# Altium footprint library Con 050 DSubminiature.PcbLib: 112 footprints (part 7 of 7)
Each footprint in its own frame and in the unit in brackets; x right, y up, seen from the top. Pads: shape width x height; smd on the part's side, far side on the other; paste and mask are expansions set on the pad; w line width, h text height; cw(c..) or ccw(c..) is an arc to the next point about the centre after c.
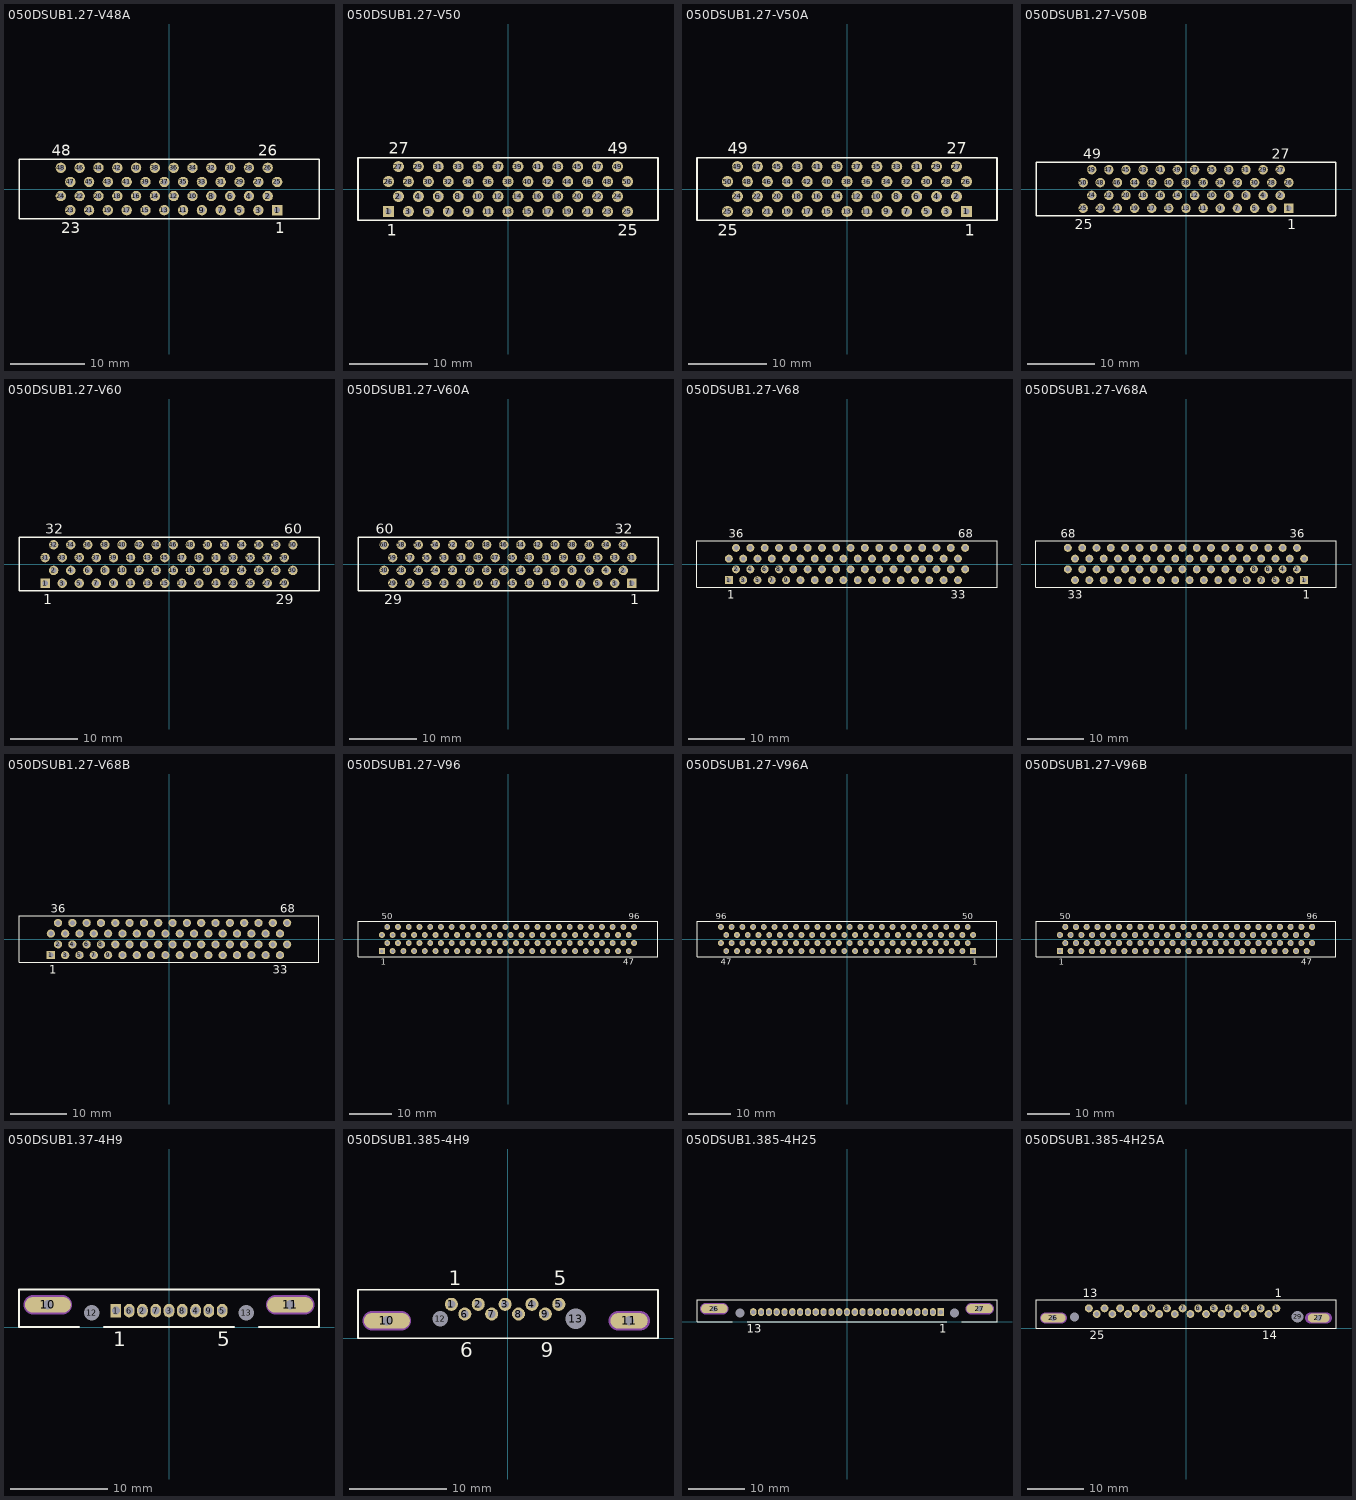
[diagram p6: the footprints below, top view; thin cyan lines are the x and y axes]

## 050DSUB1.27-V48A [mm] "Connector; D Subminiature 050 Series; 48 Position; Vertical"
height 9.5
pads (48):
  rect 1.4x1.4 hole 0.8: 1(14.605,-2.857)
  round 1.4 hole 0.8: 2(13.335,-0.953) 3(12.065,-2.857) 4(10.795,-0.953) 5(9.525,-2.857) 6(8.255,-0.953) 7(6.985,-2.857) 8(5.715,-0.953) 9(4.445,-2.857) 10(3.175,-0.953) 11(1.905,-2.857) 12(0.635,-0.953) 13(-0.635,-2.857) 14(-1.905,-0.953) 15(-3.175,-2.857) 16(-4.445,-0.953) 17(-5.715,-2.857) 18(-6.985,-0.953) 19(-8.255,-2.857) 20(-9.525,-0.953) 21(-10.795,-2.857) 22(-12.065,-0.953) 23(-13.335,-2.857) 24(-14.605,-0.953) 25(14.605,0.953) 26(13.335,2.857) 27(12.065,0.953) 28(10.795,2.857) 29(9.525,0.953) 30(8.255,2.857) 31(6.985,0.953) 32(5.715,2.857) 33(4.445,0.953) 34(3.175,2.857) 35(1.905,0.953) 36(0.635,2.857) 37(-0.635,0.953) 38(-1.905,2.857) 39(-3.175,0.953) 40(-4.445,2.857) 41(-5.715,0.953) 42(-6.985,2.857) 43(-8.255,0.953) 44(-9.525,2.857) 45(-10.795,0.953) 46(-12.065,2.857) 47(-13.335,0.953) 48(-14.605,2.857)
Top Overlay:
  lines w0.2: -20.26,-4 -20.26,4 20.26,4 20.26,-4 -20.26,-4
  text "1" at 14.355,-5.975 h1.5
  text "23" at -14.585,-5.975 h1.5
  text "48" at -15.855,4.475 h1.5
  text "26" at 12.085,4.475 h1.5

## 050DSUB1.27-V50 [mm] "Connector; D Subminiature 050 Series; 50 Position; Vertical"
height 8
pads (50):
  rect 1.4x1.4 hole 0.8: 1(-15.24,-2.857)
  round 1.4 hole 0.8: 2(-13.97,-0.953) 3(-12.7,-2.857) 4(-11.43,-0.953) 5(-10.16,-2.857) 6(-8.89,-0.953) 7(-7.62,-2.857) 8(-6.35,-0.953) 9(-5.08,-2.857) 10(-3.81,-0.953) 11(-2.54,-2.857) 12(-1.27,-0.953) 13(0,-2.857) 14(1.27,-0.953) 15(2.54,-2.857) 16(3.81,-0.953) 17(5.08,-2.857) 18(6.35,-0.953) 19(7.62,-2.857) 20(8.89,-0.953) 21(10.16,-2.857) 22(11.43,-0.953) 23(12.7,-2.857) 24(13.97,-0.953) 25(15.24,-2.857) 26(-15.24,0.953) 27(-13.97,2.857) 28(-12.7,0.953) 29(-11.43,2.857) 30(-10.16,0.953) 31(-8.89,2.857) 32(-7.62,0.953) 33(-6.35,2.857) 34(-5.08,0.953) 35(-3.81,2.857) 36(-2.54,0.953) 37(-1.27,2.857) 38(0,0.953) 39(1.27,2.857) 40(2.54,0.953) 41(3.81,2.857) 42(5.08,0.953) 43(6.35,2.857) 44(7.62,0.953) 45(8.89,2.857) 46(10.16,0.953) 47(11.43,2.857) 48(12.7,0.953) 49(13.97,2.857) 50(15.24,0.953)
Top Overlay:
  lines w0.2: -19.13,-4 19.13,-4 19.13,4 -19.13,4 -19.13,-4
  text "1" at -15.49,-5.975 h1.5
  text "25" at 13.99,-5.975 h1.5
  text "27" at -15.22,4.475 h1.5
  text "49" at 12.72,4.475 h1.5

## 050DSUB1.27-V50A [mm] "Connector; D Subminiature 050 Series; 50 Position; Vertical"
height 9.6
pads (50):
  rect 1.4x1.4 hole 0.8: 1(15.24,-2.857)
  round 1.4 hole 0.8: 2(13.97,-0.953) 3(12.7,-2.857) 4(11.43,-0.953) 5(10.16,-2.857) 6(8.89,-0.953) 7(7.62,-2.857) 8(6.35,-0.953) 9(5.08,-2.857) 10(3.81,-0.953) 11(2.54,-2.857) 12(1.27,-0.953) 13(0,-2.857) 14(-1.27,-0.953) 15(-2.54,-2.857) 16(-3.81,-0.953) 17(-5.08,-2.857) 18(-6.35,-0.953) 19(-7.62,-2.857) 20(-8.89,-0.953) 21(-10.16,-2.857) 22(-11.43,-0.953) 23(-12.7,-2.857) 24(-13.97,-0.953) 25(-15.24,-2.857) 26(15.24,0.953) 27(13.97,2.857) 28(12.7,0.953) 29(11.43,2.857) 30(10.16,0.953) 31(8.89,2.857) 32(7.62,0.953) 33(6.35,2.857) 34(5.08,0.953) 35(3.81,2.857) 36(2.54,0.953) 37(1.27,2.857) 38(0,0.953) 39(-1.27,2.857) 40(-2.54,0.953) 41(-3.81,2.857) 42(-5.08,0.953) 43(-6.35,2.857) 44(-7.62,0.953) 45(-8.89,2.857) 46(-10.16,0.953) 47(-11.43,2.857) 48(-12.7,0.953) 49(-13.97,2.857) 50(-15.24,0.953)
Top Overlay:
  lines w0.2: -19.13,-4 19.13,-4 19.13,4 -19.13,4 -19.13,-4
  text "27" at 12.72,4.475 h1.5
  text "49" at -15.22,4.475 h1.5
  text "25" at -16.49,-5.975 h1.5
  text "1" at 14.99,-5.975 h1.5

## 050DSUB1.27-V50B [mm] "Connector; D Subminiature 050 Series; 50 Position; Vertical"
height 9.5
pads (50):
  rect 1.4x1.4 hole 0.8: 1(15.24,-2.857)
  round 1.4 hole 0.8: 2(13.97,-0.953) 3(12.7,-2.857) 4(11.43,-0.953) 5(10.16,-2.857) 6(8.89,-0.953) 7(7.62,-2.857) 8(6.35,-0.953) 9(5.08,-2.857) 10(3.81,-0.953) 11(2.54,-2.857) 12(1.27,-0.953) 13(0,-2.857) 14(-1.27,-0.953) 15(-2.54,-2.857) 16(-3.81,-0.953) 17(-5.08,-2.857) 18(-6.35,-0.953) 19(-7.62,-2.857) 20(-8.89,-0.953) 21(-10.16,-2.857) 22(-11.43,-0.953) 23(-12.7,-2.857) 24(-13.97,-0.953) 25(-15.24,-2.857) 26(15.24,0.953) 27(13.97,2.857) 28(12.7,0.953) 29(11.43,2.857) 30(10.16,0.953) 31(8.89,2.857) 32(7.62,0.953) 33(6.35,2.857) 34(5.08,0.953) 35(3.81,2.857) 36(2.54,0.953) 37(1.27,2.857) 38(0,0.953) 39(-1.27,2.857) 40(-2.54,0.953) 41(-3.81,2.857) 42(-5.08,0.953) 43(-6.35,2.857) 44(-7.62,0.953) 45(-8.89,2.857) 46(-10.16,0.953) 47(-11.43,2.857) 48(-12.7,0.953) 49(-13.97,2.857) 50(-15.24,0.953)
Top Overlay:
  lines w0.2: -22.225,-4 -22.225,4 22.225,4 22.225,-4 -22.225,-4
  text "49" at -15.22,4.475 h1.5
  text "27" at 12.72,4.475 h1.5
  text "25" at -16.49,-5.975 h1.5
  text "1" at 14.99,-5.975 h1.5

## 050DSUB1.27-V60 [mm] "Connector; D Subminiature 050 Series; 60 Position; Vertical"
height 8
pads (60):
  rect 1.4x1.4 hole 0.8: 1(-18.415,-2.857)
  round 1.4 hole 0.8: 2(-17.145,-0.953) 3(-15.875,-2.857) 4(-14.605,-0.953) 5(-13.335,-2.857) 6(-12.065,-0.953) 7(-10.795,-2.857) 8(-9.525,-0.953) 9(-8.255,-2.857) 10(-6.985,-0.953) 11(-5.715,-2.857) 12(-4.445,-0.953) 13(-3.175,-2.857) 14(-1.905,-0.953) 15(-0.635,-2.857) 16(0.635,-0.953) 17(1.905,-2.857) 18(3.175,-0.953) 19(4.445,-2.857) 20(5.715,-0.953) 21(6.985,-2.857) 22(8.255,-0.953) 23(9.525,-2.857) 24(10.795,-0.953) 25(12.065,-2.857) 26(13.335,-0.953) 27(14.605,-2.857) 28(15.875,-0.953) 29(17.145,-2.857) 30(18.415,-0.953) 31(-18.415,0.953) 32(-17.145,2.857) 33(-15.875,0.953) 34(-14.605,2.857) 35(-13.335,0.953) 36(-12.065,2.857) 37(-10.795,0.953) 38(-9.525,2.857) 39(-8.255,0.953) 40(-6.985,2.857) 41(-5.715,0.953) 42(-4.445,2.857) 43(-3.175,0.953) 44(-1.905,2.857) 45(-0.635,0.953) 46(0.635,2.857) 47(1.905,0.953) 48(3.175,2.857) 49(4.445,0.953) 50(5.715,2.857) 51(6.985,0.953) 52(8.255,2.857) 53(9.525,0.953) 54(10.795,2.857) 55(12.065,0.953) 56(13.335,2.857) 57(14.605,0.953) 58(15.875,2.857) 59(17.145,0.953) 60(18.415,2.857)
Top Overlay:
  lines w0.2: -22.3,-4 22.3,-4 22.3,4 -22.3,4 -22.3,-4
  text "60" at 17.165,4.475 h1.5
  text "32" at -18.395,4.475 h1.5
  text "29" at 15.895,-5.975 h1.5
  text "1" at -18.665,-5.975 h1.5

## 050DSUB1.27-V60A [mm] "Connector; D Subminiature 050 Series; 60 Position; Vertical"
height 9.6
pads (60):
  rect 1.4x1.4 hole 0.8: 1(18.415,-2.857)
  round 1.4 hole 0.8: 2(17.145,-0.953) 3(15.875,-2.857) 4(14.605,-0.953) 5(13.335,-2.857) 6(12.065,-0.953) 7(10.795,-2.857) 8(9.525,-0.953) 9(8.255,-2.857) 10(6.985,-0.953) 11(5.715,-2.857) 12(4.445,-0.953) 13(3.175,-2.857) 14(1.905,-0.953) 15(0.635,-2.857) 16(-0.635,-0.953) 17(-1.905,-2.857) 18(-3.175,-0.953) 19(-4.445,-2.857) 20(-5.715,-0.953) 21(-6.985,-2.857) 22(-8.255,-0.953) 23(-9.525,-2.857) 24(-10.795,-0.953) 25(-12.065,-2.857) 26(-13.335,-0.953) 27(-14.605,-2.857) 28(-15.875,-0.953) 29(-17.145,-2.857) 30(-18.415,-0.953) 31(18.415,0.953) 32(17.145,2.857) 33(15.875,0.953) 34(14.605,2.857) 35(13.335,0.953) 36(12.065,2.857) 37(10.795,0.953) 38(9.525,2.857) 39(8.255,0.953) 40(6.985,2.857) 41(5.715,0.953) 42(4.445,2.857) 43(3.175,0.953) 44(1.905,2.857) 45(0.635,0.953) 46(-0.635,2.857) 47(-1.905,0.953) 48(-3.175,2.857) 49(-4.445,0.953) 50(-5.715,2.857) 51(-6.985,0.953) 52(-8.255,2.857) 53(-9.525,0.953) 54(-10.795,2.857) 55(-12.065,0.953) 56(-13.335,2.857) 57(-14.605,0.953) 58(-15.875,2.857) 59(-17.145,0.953) 60(-18.415,2.857)
Top Overlay:
  lines w0.2: -22.3,-4 -22.3,4 22.3,4 22.3,-4 -22.3,-4
  text "32" at 15.895,4.475 h1.5
  text "29" at -18.395,-5.975 h1.5
  text "1" at 18.165,-5.975 h1.5
  text "60" at -19.665,4.475 h1.5

## 050DSUB1.27-V68 [mm] "Connector; D Subminiature 050 Series; 68 Position; Vertical"
height 7.9
pads (68):
  rect 1.4x1.4 hole 0.8: 1(-20.955,-2.857)
  round 1.4 hole 0.8: 2(-19.685,-0.953) 3(-18.415,-2.857) 4(-17.145,-0.953) 5(-15.875,-2.857) 6(-14.605,-0.953) 7(-13.335,-2.857) 8(-12.065,-0.953) 9(-10.795,-2.857) 10(-9.525,-0.953) 11(-8.255,-2.857) 12(-6.985,-0.953) 13(-5.715,-2.857) 14(-4.445,-0.953) 15(-3.175,-2.857) 16(-1.905,-0.953) 17(-0.635,-2.857) 18(0.635,-0.953) 19(1.905,-2.857) 20(3.175,-0.953) 21(4.445,-2.857) 22(5.715,-0.953) 23(6.985,-2.857) 24(8.255,-0.953) 25(9.525,-2.857) 26(10.795,-0.953) 27(12.065,-2.857) 28(13.335,-0.953) 29(14.605,-2.857) 30(15.875,-0.953) 31(17.145,-2.857) 32(18.415,-0.953) 33(19.685,-2.857) 34(20.955,-0.953) 35(-20.955,0.953) 36(-19.685,2.857) 37(-18.415,0.953) 38(-17.145,2.857) 39(-15.875,0.953) 40(-14.605,2.857) 41(-13.335,0.953) 42(-12.065,2.857) 43(-10.795,0.953) 44(-9.525,2.857) 45(-8.255,0.953) 46(-6.985,2.857) 47(-5.715,0.953) 48(-4.445,2.857) 49(-3.175,0.953) 50(-1.905,2.857) 51(-0.635,0.953) 52(0.635,2.857) 53(1.905,0.953) 54(3.175,2.857) 55(4.445,0.953) 56(5.715,2.857) 57(6.985,0.953) 58(8.255,2.857) 59(9.525,0.953) 60(10.795,2.857) 61(12.065,0.953) 62(13.335,2.857) 63(14.605,0.953) 64(15.875,2.857) 65(17.145,0.953) 66(18.415,2.857) 67(19.685,0.953) 68(20.955,2.857)
Top Overlay:
  lines w0.2: -26.61,-4.157 26.61,-4.157 26.61,4.157 -26.61,4.157 -26.61,-4.157
  text "1" at -21.205,-6.132 h1.5
  text "33" at 18.435,-6.132 h1.5
  text "36" at -20.935,4.633 h1.5
  text "68" at 19.705,4.633 h1.5

## 050DSUB1.27-V68A [mm] "Connector; D Subminiature 050 Series; 68 Position; Vertical"
height 9.5
pads (68):
  rect 1.4x1.4 hole 0.8: 1(20.955,-2.857)
  round 1.4 hole 0.8: 2(19.685,-0.953) 3(18.415,-2.857) 4(17.145,-0.953) 5(15.875,-2.857) 6(14.605,-0.953) 7(13.335,-2.857) 8(12.065,-0.953) 9(10.795,-2.857) 10(9.525,-0.953) 11(8.255,-2.857) 12(6.985,-0.953) 13(5.715,-2.857) 14(4.445,-0.953) 15(3.175,-2.857) 16(1.905,-0.953) 17(0.635,-2.857) 18(-0.635,-0.953) 19(-1.905,-2.857) 20(-3.175,-0.953) 21(-4.445,-2.857) 22(-5.715,-0.953) 23(-6.985,-2.857) 24(-8.255,-0.953) 25(-9.525,-2.857) 26(-10.795,-0.953) 27(-12.065,-2.857) 28(-13.335,-0.953) 29(-14.605,-2.857) 30(-15.875,-0.953) 31(-17.145,-2.857) 32(-18.415,-0.953) 33(-19.685,-2.857) 34(-20.955,-0.953) 35(20.955,0.953) 36(19.685,2.857) 37(18.415,0.953) 38(17.145,2.857) 39(15.875,0.953) 40(14.605,2.857) 41(13.335,0.953) 42(12.065,2.857) 43(10.795,0.953) 44(9.525,2.857) 45(8.255,0.953) 46(6.985,2.857) 47(5.715,0.953) 48(4.445,2.857) 49(3.175,0.953) 50(1.905,2.857) 51(0.635,0.953) 52(-0.635,2.857) 53(-1.905,0.953) 54(-3.175,2.857) 55(-4.445,0.953) 56(-5.715,2.857) 57(-6.985,0.953) 58(-8.255,2.857) 59(-9.525,0.953) 60(-10.795,2.857) 61(-12.065,0.953) 62(-13.335,2.857) 63(-14.605,0.953) 64(-15.875,2.857) 65(-17.145,0.953) 66(-18.415,2.857) 67(-19.685,0.953) 68(-20.955,2.857)
Top Overlay:
  lines w0.2: -26.61,-4.157 26.61,-4.157 26.61,4.157 -26.61,4.157 -26.61,-4.157
  text "1" at 20.705,-6.132 h1.5
  text "33" at -20.935,-6.132 h1.5
  text "68" at -22.205,4.633 h1.5
  text "36" at 18.435,4.633 h1.5

## 050DSUB1.27-V68B [mm] "Connector; D Subminiature 050 Series; 68 Position; Vertical"
height 14.58
pads (68):
  rect 1.46x1.46 hole 0.86: 1(-20.955,-2.857)
  round 1.46 hole 0.86: 2(-19.685,-0.953) 3(-18.415,-2.857) 4(-17.145,-0.953) 5(-15.875,-2.857) 6(-14.605,-0.953) 7(-13.335,-2.857) 8(-12.065,-0.953) 9(-10.795,-2.857) 10(-9.525,-0.953) 11(-8.255,-2.857) 12(-6.985,-0.953) 13(-5.715,-2.857) 14(-4.445,-0.953) 15(-3.175,-2.857) 16(-1.905,-0.953) 17(-0.635,-2.857) 18(0.635,-0.953) 19(1.905,-2.857) 20(3.175,-0.953) 21(4.445,-2.857) 22(5.715,-0.953) 23(6.985,-2.857) 24(8.255,-0.953) 25(9.525,-2.857) 26(10.795,-0.953) 27(12.065,-2.857) 28(13.335,-0.953) 29(14.605,-2.857) 30(15.875,-0.953) 31(17.145,-2.857) 32(18.415,-0.953) 33(19.685,-2.857) 34(20.955,-0.953) 35(-20.955,0.953) 36(-19.685,2.857) 37(-18.415,0.953) 38(-17.145,2.857) 39(-15.875,0.953) 40(-14.605,2.857) 41(-13.335,0.953) 42(-12.065,2.857) 43(-10.795,0.953) 44(-9.525,2.857) 45(-8.255,0.953) 46(-6.985,2.857) 47(-5.715,0.953) 48(-4.445,2.857) 49(-3.175,0.953) 50(-1.905,2.857) 51(-0.635,0.953) 52(0.635,2.857) 53(1.905,0.953) 54(3.175,2.857) 55(4.445,0.953) 56(5.715,2.857) 57(6.985,0.953) 58(8.255,2.857) 59(9.525,0.953) 60(10.795,2.857) 61(12.065,0.953) 62(13.335,2.857) 63(14.605,0.953) 64(15.875,2.857) 65(17.145,0.953) 66(18.415,2.857) 67(19.685,0.953) 68(20.955,2.857)
Top Overlay:
  lines w0.2: -26.605,-4.157 -26.605,4.157 26.605,4.157 26.605,-4.157 -26.605,-4.157
  text "68" at 19.705,4.633 h1.5
  text "36" at -20.935,4.633 h1.5
  text "33" at 18.435,-6.132 h1.5
  text "1" at -21.205,-6.132 h1.5

## 050DSUB1.27-V96 [mm] "Connector; D Subminiature 050 Series; 96 Position; Vertical"
height 7.9
pads (96):
  rect 1.4x1.4 hole 0.8: 1(-29.845,-2.857)
  round 1.4 hole 0.8: 2(-28.575,-0.953) 3(-27.305,-2.857) 4(-26.035,-0.953) 5(-24.765,-2.857) 6(-23.495,-0.953) 7(-22.225,-2.857) 8(-20.955,-0.953) 9(-19.685,-2.857) 10(-18.415,-0.953) 11(-17.145,-2.857) 12(-15.875,-0.953) 13(-14.605,-2.857) 14(-13.335,-0.953) 15(-12.065,-2.857) 16(-10.795,-0.953) 17(-9.525,-2.857) 18(-8.255,-0.953) 19(-6.985,-2.857) 20(-5.715,-0.953) 21(-4.445,-2.857) 22(-3.175,-0.953) 23(-1.905,-2.857) 24(-0.635,-0.953) 25(0.635,-2.857) 26(1.905,-0.953) 27(3.175,-2.857) 28(4.445,-0.953) 29(5.715,-2.857) 30(6.985,-0.953) 31(8.255,-2.857) 32(9.525,-0.953) 33(10.795,-2.857) 34(12.065,-0.953) 35(13.335,-2.857) 36(14.605,-0.953) 37(15.875,-2.857) 38(17.145,-0.953) 39(18.415,-2.857) 40(19.685,-0.953) 41(20.955,-2.857) 42(22.225,-0.953) 43(23.495,-2.857) 44(24.765,-0.953) 45(26.035,-2.857) 46(27.305,-0.953) 47(28.575,-2.857) 48(29.845,-0.953) 49(-29.845,0.953) 50(-28.575,2.857) 51(-27.305,0.953) 52(-26.035,2.857) 53(-24.765,0.953) 54(-23.495,2.857) 55(-22.225,0.953) 56(-20.955,2.857) 57(-19.685,0.953) 58(-18.415,2.857) 59(-17.145,0.953) 60(-15.875,2.857) 61(-14.605,0.953) 62(-13.335,2.857) 63(-12.065,0.953) 64(-10.795,2.857) 65(-9.525,0.953) 66(-8.255,2.857) 67(-6.985,0.953) 68(-5.715,2.857) 69(-4.445,0.953) 70(-3.175,2.857) 71(-1.905,0.953) 72(-0.635,2.857) 73(0.635,0.953) 74(1.905,2.857) 75(3.175,0.953) 76(4.445,2.857) 77(5.715,0.953) 78(6.985,2.857) 79(8.255,0.953) 80(9.525,2.857) 81(10.795,0.953) 82(12.065,2.857) 83(13.335,0.953) 84(14.605,2.857) 85(15.875,0.953) 86(17.145,2.857) 87(18.415,0.953) 88(19.685,2.857) 89(20.955,0.953) 90(22.225,2.857) 91(23.495,0.953) 92(24.765,2.857) 93(26.035,0.953) 94(27.305,2.857) 95(28.575,0.953) 96(29.845,2.857)
Top Overlay:
  lines w0.2: -35.5,-4.157 35.5,-4.157 35.5,4.157 -35.5,4.157 -35.5,-4.157
  text "47" at 27.325,-6.132 h1.5
  text "50" at -29.825,4.633 h1.5
  text "96" at 28.595,4.633 h1.5
  text "1" at -30.095,-6.132 h1.5

## 050DSUB1.27-V96A [mm] "Connector; D Subminiature 050 Series; 96 Position; Vertical"
height 9.5
pads (96):
  rect 1.4x1.4 hole 0.8: 1(29.845,-2.857)
  round 1.4 hole 0.8: 2(28.575,-0.953) 3(27.305,-2.857) 4(26.035,-0.953) 5(24.765,-2.857) 6(23.495,-0.953) 7(22.225,-2.857) 8(20.955,-0.953) 9(19.685,-2.857) 10(18.415,-0.953) 11(17.145,-2.857) 12(15.875,-0.953) 13(14.605,-2.857) 14(13.335,-0.953) 15(12.065,-2.857) 16(10.795,-0.953) 17(9.525,-2.857) 18(8.255,-0.953) 19(6.985,-2.857) 20(5.715,-0.953) 21(4.445,-2.857) 22(3.175,-0.953) 23(1.905,-2.857) 24(0.635,-0.953) 25(-0.635,-2.857) 26(-1.905,-0.953) 27(-3.175,-2.857) 28(-4.445,-0.953) 29(-5.715,-2.857) 30(-6.985,-0.953) 31(-8.255,-2.857) 32(-9.525,-0.953) 33(-10.795,-2.857) 34(-12.065,-0.953) 35(-13.335,-2.857) 36(-14.605,-0.953) 37(-15.875,-2.857) 38(-17.145,-0.953) 39(-18.415,-2.857) 40(-19.685,-0.953) 41(-20.955,-2.857) 42(-22.225,-0.953) 43(-23.495,-2.857) 44(-24.765,-0.953) 45(-26.035,-2.857) 46(-27.305,-0.953) 47(-28.575,-2.857) 48(-29.845,-0.953) 49(29.845,0.953) 50(28.575,2.857) 51(27.305,0.953) 52(26.035,2.857) 53(24.765,0.953) 54(23.495,2.857) 55(22.225,0.953) 56(20.955,2.857) 57(19.685,0.953) 58(18.415,2.857) 59(17.145,0.953) 60(15.875,2.857) 61(14.605,0.953) 62(13.335,2.857) 63(12.065,0.953) 64(10.795,2.857) 65(9.525,0.953) 66(8.255,2.857) 67(6.985,0.953) 68(5.715,2.857) 69(4.445,0.953) 70(3.175,2.857) 71(1.905,0.953) 72(0.635,2.857) 73(-0.635,0.953) 74(-1.905,2.857) 75(-3.175,0.953) 76(-4.445,2.857) 77(-5.715,0.953) 78(-6.985,2.857) 79(-8.255,0.953) 80(-9.525,2.857) 81(-10.795,0.953) 82(-12.065,2.857) 83(-13.335,0.953) 84(-14.605,2.857) 85(-15.875,0.953) 86(-17.145,2.857) 87(-18.415,0.953) 88(-19.685,2.857) 89(-20.955,0.953) 90(-22.225,2.857) 91(-23.495,0.953) 92(-24.765,2.857) 93(-26.035,0.953) 94(-27.305,2.857) 95(-28.575,0.953) 96(-29.845,2.857)
Top Overlay:
  lines w0.2: -35.5,-4.157 -35.5,4.157 35.5,4.157 35.5,-4.157 -35.5,-4.157
  text "1" at 29.595,-6.132 h1.5
  text "47" at -29.825,-6.132 h1.5
  text "96" at -31.095,4.633 h1.5
  text "50" at 27.325,4.633 h1.5

## 050DSUB1.27-V96B [mm] "Connector; D Subminiature 050 Series; 96 Position; Vertical"
height 14.58
pads (96):
  rect 1.46x1.46 hole 0.86: 1(-29.845,-2.857)
  round 1.46 hole 0.86: 2(-28.575,-0.953) 3(-27.305,-2.857) 4(-26.035,-0.953) 5(-24.765,-2.857) 6(-23.495,-0.953) 7(-22.225,-2.857) 8(-20.955,-0.953) 9(-19.685,-2.857) 10(-18.415,-0.953) 11(-17.145,-2.857) 12(-15.875,-0.953) 13(-14.605,-2.857) 14(-13.335,-0.953) 15(-12.065,-2.857) 16(-10.795,-0.953) 17(-9.525,-2.857) 18(-8.255,-0.953) 19(-6.985,-2.857) 20(-5.715,-0.953) 21(-4.445,-2.857) 22(-3.175,-0.953) 23(-1.905,-2.857) 24(-0.635,-0.953) 25(0.635,-2.857) 26(1.905,-0.953) 27(3.175,-2.857) 28(4.445,-0.953) 29(5.715,-2.857) 30(6.985,-0.953) 31(8.255,-2.857) 32(9.525,-0.953) 33(10.795,-2.857) 34(12.065,-0.953) 35(13.335,-2.857) 36(14.605,-0.953) 37(15.875,-2.857) 38(17.145,-0.953) 39(18.415,-2.857) 40(19.685,-0.953) 41(20.955,-2.857) 42(22.225,-0.953) 43(23.495,-2.857) 44(24.765,-0.953) 45(26.035,-2.857) 46(27.305,-0.953) 47(28.575,-2.857) 48(29.845,-0.953) 49(-29.845,0.953) 50(-28.575,2.857) 51(-27.305,0.953) 52(-26.035,2.857) 53(-24.765,0.953) 54(-23.495,2.857) 55(-22.225,0.953) 56(-20.955,2.857) 57(-19.685,0.953) 58(-18.415,2.857) 59(-17.145,0.953) 60(-15.875,2.857) 61(-14.605,0.953) 62(-13.335,2.857) 63(-12.065,0.953) 64(-10.795,2.857) 65(-9.525,0.953) 66(-8.255,2.857) 67(-6.985,0.953) 68(-5.715,2.857) 69(-4.445,0.953) 70(-3.175,2.857) 71(-1.905,0.953) 72(-0.635,2.857) 73(0.635,0.953) 74(1.905,2.857) 75(3.175,0.953) 76(4.445,2.857) 77(5.715,0.953) 78(6.985,2.857) 79(8.255,0.953) 80(9.525,2.857) 81(10.795,0.953) 82(12.065,2.857) 83(13.335,0.953) 84(14.605,2.857) 85(15.875,0.953) 86(17.145,2.857) 87(18.415,0.953) 88(19.685,2.857) 89(20.955,0.953) 90(22.225,2.857) 91(23.495,0.953) 92(24.765,2.857) 93(26.035,0.953) 94(27.305,2.857) 95(28.575,0.953) 96(29.845,2.857)
Top Overlay:
  lines w0.2: -35.5,-4.157 35.5,-4.157 35.5,4.157 -35.5,4.157 -35.5,-4.157
  text "47" at 27.325,-6.132 h1.5
  text "50" at -29.825,4.633 h1.5
  text "96" at 28.595,4.633 h1.5
  text "1" at -30.095,-6.132 h1.5

## 050DSUB1.37-4H9 [mm] "Connector; D Subminiature 050 Series; 9 Position; Right Angle"
height 12.57
pads (13):
  rect 1.1x1.4 hole 0.8: 1(-5.48,1.7)
  oval 1.1x1.4 hole 0.8: 2(-2.74,1.7) 3(0,1.7) 4(2.74,1.7) 5(5.48,1.7) 6(-4.11,1.7) 7(-1.37,1.7) 8(1.37,1.7) 9(4.11,1.7)
  oval 4.75x1.6 hole 1: 10(-12.495,2.3) 11(12.495,2.3)
  round 1.3 hole 1.6: 12(-7.986,1.5) 13(7.994,1.5)
Top Overlay:
  lines w0.2: -9.28,0 -15.475,0 -15.475,3.9 15.475,3.9 15.475,0 9.288,0 ; -6.692,0 6.7,0
  text "1" at -5.73,-1.975 h1.5
  text "5" at 4.98,-1.975 h1.5
Mechanical 1:
  lines w1.2: -13.995,2.3 -10.995,2.3 ; 10.995,2.3 13.995,2.3
  text "Alert PCB fab to slot details" at -15.491,-1.67 h0.3
  text "Slot 1.2x4.2mm, PTH" at -15.491,-2.17 h0.3
  text "Assign keep-out area to slot" at -15.491,-1.17 h0.3
  text "Mech 1 - Slot cut-out" at -15.491,-2.67 h0.3
  text "Mech 2 - Clearance, move to internal plane if present" at -15.491,-3.17 h0.3
Mechanical 2:
  lines w2.016: -13.995,2.3 -10.995,2.3 ; 10.995,2.3 13.995,2.3

## 050DSUB1.385-4H9 [mm] "Connector; D Subminiature 050 Series; 9 Position; Right Angle"
height 12.65
pads (13):
  round 1.35 hole 0.8: 1(-5.84,3.5) 2(-3.07,3.5) 3(-0.3,3.5) 4(2.47,3.5) 5(5.24,3.5) 6(-4.455,2.5) 7(-1.685,2.5) 8(1.085,2.5) 9(3.855,2.5)
  oval 4.75x1.6 hole 1: 10(-12.495,1.8)
  oval 3.85x1.6 hole 1: 11(12.495,1.8)
  round 1.3 hole 1.6: 12(-7,2)
  round 1.8 hole 2.1: 13(7,2)
Top Overlay:
  lines w0.2: -15.475,0 15.475,0 15.475,5 -15.475,5 -15.475,0
  text "9" at 3.385,-1.975 h1.5
  text "6" at -4.925,-1.975 h1.5
  text "1" at -6.09,5.475 h1.5
  text "5" at 4.74,5.475 h1.5
Mechanical 1:
  lines w1.2: -13.995,1.8 -10.995,1.8 ; 11.37,1.8 13.62,1.8
  text "Alert PCB fab to slot details" at -15.41,-1.5 h0.3
  text "Assign keep-out area to slot" at -15.41,-1 h0.3
  text "Mech 1 - Slot cut-out" at -15.41,-2 h0.3
  text "Mech 2 - Clearance, move to internal plane if present" at -15.41,-2.5 h0.3
Mechanical 2:
  lines w2.016: -13.995,1.8 -10.995,1.8 ; 11.37,1.8 13.62,1.8

## 050DSUB1.385-4H25 [mm] "Connector; D Subminiature 050 Series; 25 Position; Right Angle"
height 12.57
pads (29):
  rect 1.1x1.4 hole 0.8: 1(16.62,1.7)
  oval 1.1x1.4 hole 0.8: 2(13.85,1.7) 3(11.05,1.7) 4(8.31,1.7) 5(5.54,1.7) 6(2.77,1.7) 7(0,1.7) 8(-2.77,1.7) 9(-5.54,1.7) 10(-8.31,1.7) 11(-11.08,1.7) 12(-13.85,1.7) 13(-16.62,1.7) 14(15.235,1.7) 15(12.465,1.7) 16(9.695,1.7) 17(6.925,1.7) 18(4.155,1.7) 19(1.385,1.7) 20(-1.385,1.7) 21(-4.155,1.7) 22(-6.925,1.7) 23(-9.695,1.7) 24(-12.465,1.7) 25(-15.235,1.7)
  oval 4.75x1.6 hole 1: 26(-23.52,2.3) 27(23.52,2.3)
  round 1.3 hole 1.6: 28(-19.011,1.5) 29(19.019,1.5)
Top Overlay:
  lines w0.2: -20.305,0 -26.595,0 -26.595,3.9 26.595,3.9 26.595,0 20.313,0 ; -17.717,0 17.725,0
  text "13" at -17.745,-1.975 h1.5
  text "1" at 16.37,-1.975 h1.5
Mechanical 1:
  lines w1.2: -25.02,2.3 -22.02,2.3 ; 22.02,2.3 25.02,2.3
  text "Mech 2 - Clearance, move to internal plane if present" at -26.516,-3.17 h0.3
  text "Mech 1 - Slot cut-out" at -26.516,-2.67 h0.3
  text "Assign keep-out area to slot" at -26.516,-1.17 h0.3
  text "Slot 1.2x4.2mm, PTH" at -26.516,-2.17 h0.3
  text "Alert PCB fab to slot details" at -26.516,-1.67 h0.3
Mechanical 2:
  lines w2.016: -25.02,2.3 -22.02,2.3 ; 22.02,2.3 25.02,2.3

## 050DSUB1.385-4H25A [mm] "Connector; D Subminiature 050 Series; 25 Position; Right Angle"
height 12.65
pads (29):
  round 1.4 hole 0.8: 1(16.02,3.5) 2(13.25,3.5) 3(10.48,3.5) 4(7.575,3.5) 5(4.94,3.5) 6(2.17,3.5) 7(-0.6,3.5) 8(-3.37,3.5) 9(-6.14,3.5) 10(-8.91,3.5) 11(-11.68,3.5) 12(-14.45,3.5) 13(-17.22,3.5) 14(14.635,2.5) 15(11.865,2.5) 16(9.095,2.5) 17(6.325,2.5) 18(3.555,2.5) 19(0.785,2.5) 20(-1.985,2.5) 21(-4.755,2.5) 22(-7.525,2.5) 23(-10.295,2.5) 24(-13.065,2.5) 25(-15.835,2.5)
  oval 4.35x1.6 hole 1: 26(-23.52,1.8)
  oval 3.85x1.6 hole 1: 27(23.52,1.8)
  round 1.3 hole 1.6: 28(-19.77,2)
  round 1.8 hole 2.1: 29(19.77,2)
Top Overlay:
  lines w0.2: -26.595,0 26.595,0 26.595,5 -26.595,5 -26.595,0
  text "14" at 13.51,-1.975 h1.5
  text "25" at -17.085,-1.975 h1.5
  text "1" at 15.77,5.475 h1.5
  text "13" at -18.345,5.475 h1.5
Mechanical 1:
  lines w1: -24.895,1.8 -22.145,1.8 ; 22.145,1.8 24.895,1.8
  text "Mech 2 - Clearance, move to internal plane if present" at -26.53,-2.5 h0.3
  text "Mech 1 - Slot cut-out" at -26.53,-2 h0.3
  text "Assign keep-out area to slot" at -26.53,-1 h0.3
  text "Alert PCB fab to slot details" at -26.53,-1.5 h0.3
Mechanical 2:
  lines w2.016: -24.895,1.8 -22.145,1.8 ; 22.145,1.8 24.895,1.8